# EAGLE library part HIH_6130 (library 1AA_Stofer)
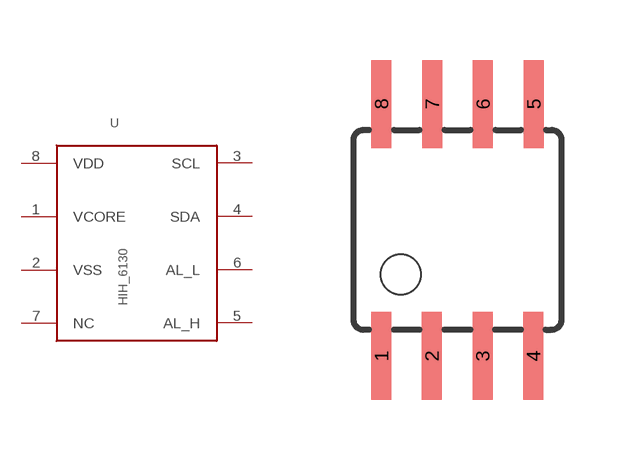
[diagram p27: symbol with the pads of SOIC8; footprint SOIC8]

Designator prefix -

## HIH_6130  [SOIC8]
1  VCORE
2  VSS
3  SCL
4  SDA
5  AL_H
6  AL_L
7  NC
8  VDD

## Footprint SOIC8 (pad centres in mm)
Wide Plastic Gull Wing Small Outline Package
smd 0.5 x 2.2: 1 -1.905,-3.154; 2 -0.645,-3.154; 3 0.625,-3.154; 4 1.895,-3.154; 5 1.905,3.154; 6 0.635,3.154; 7 -0.635,3.154; 8 -1.905,3.154